# Altium schematic symbol library P1.SCHLIB: 2 symbols
Pins are listed as number, name and electrical type; pins without a type are passive.

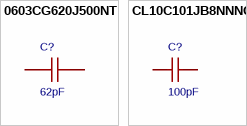
[diagram p0: symbols 0603CG620J500NT to CL10C101JB8NNNC]

## 0603CG620J500NT
designator C?, comment 62pF
Capacitance:62pF Tolerance:±5% Tolerance:±5% Voltage Rating:50V Temperature Coefficient:C0G; Manufacturer: FH(风华); Symbol: 0603CG620J500NT; AddInBom: yes; ModelId: 624118aa3cc7497086c383c2d72e0852ÂŽ0819f05c4eef4c71ace90d822a990e87; ModelName: C0603_L1.6-W0.8-H0.8; ModelTransform: 62.992,31.496,0,0,0,0,0,0,0; Tolerance: ±5%; Voltage Rating: 50V; Temperature Coefficient: C0G; Device: 0603CG620J500NT; LCSC Part Name: 62pF ±5% 50V; SupplierPart: C60732; ManufacturerPart: 0603CG620J500NT; Supplier Footprint: 0603; JLCPCB Part Class: Extended Part; Datasheet: https://item.szlcsc.com/datasheet/0603CG620J500NT/61784.html; Supplier: LCSC; ConvertToPcb: yes; FootprintName: C0603; Value: 62pF
footprint C0603
pins: 1, 2

## CL10C101JB8NNNC
designator C?, comment 100pF
Capacitance:100pF Tolerance:±5% Tolerance:±5% Voltage Rating:50V Temperature Coefficient:C0G; Manufacturer: SAMSUNG(三星); Symbol: CL10C101JB8NNNC; AddInBom: yes; ModelId: 624118aa3cc7497086c383c2d72e0852ÂŽ0819f05c4eef4c71ace90d822a990e87; ModelName: C0603_L1.6-W0.8-H0.8; ModelTransform: 62.992,31.496,0,0,0,0,0,0,0; Tolerance: ±5%; Voltage Rating: 50V; Temperature Coefficient: C0G; Device: CL10C101JB8NNNC; LCSC Part Name: 100pF ±5% 50V; SupplierPart: C14858; ManufacturerPart: CL10C101JB8NNNC; Supplier Footprint: 0603; JLCPCB Part Class: Basic Part; Datasheet: https://item.szlcsc.com/datasheet/CL10C101JB8NNNC/15530.html; Supplier: LCSC; ConvertToPcb: yes; FootprintName: C0603; Value: 100pF
footprint C0603
pins: 1, 2